# Altium footprint library TPS2660.PcbLib: 3 footprints
Each footprint in its own frame and in the unit in brackets; x right, y up, seen from the top. Pads: shape width x height; smd on the part's side, far side on the other; paste and mask are expansions set on the pad; w line width, h text height; cw(c..) or ccw(c..) is an arc to the next point about the centre after c.
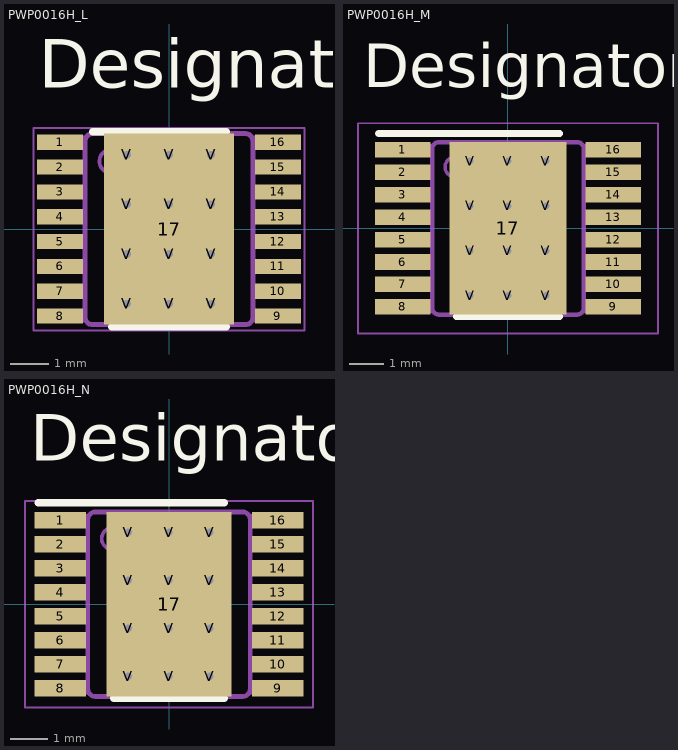
[diagram p0: the footprints below, top view; thin cyan lines are the x and y axes]

## PWP0016H_L [mm]
pads (29):
  rect 1.2x0.4 smd paste+0 mask+0.051: 1(-2.85,2.275) 2(-2.85,1.625) 3(-2.85,0.975) 4(-2.85,0.325) 5(-2.85,-0.325) 6(-2.85,-0.975) 7(-2.85,-1.625) 8(-2.85,-2.275) 9(2.85,-2.275) 10(2.85,-1.625) 11(2.85,-0.975) 12(2.85,-0.325) 13(2.85,0.325) 14(2.85,0.975) 15(2.85,1.625) 16(2.85,2.275)
  rect 3.4x5 smd paste-2.487 mask-2.489: 17(0,0)
  round 0.5 / inner round 1.524 / far side round 0.5 hole 0.203 mask-0.241: V(-1.1,-1.95) V(-1.1,1.95) V(0,-1.95) V(0,-0.65) V(0,0.65) V(0,1.95) V(1.1,-1.95) V(1.1,1.95)
  round 0.5 / inner round 1.524 / far side round 0.5 hole 0.203 mask-0.152: V(-1.1,-0.65) V(-1.1,0.65) V(1.1,-0.65) V(1.1,0.65)
Top Overlay:
  lines w0.2: -2,2.55 1.5,2.55 ; -1.5,-2.55 1.5,-2.55
  text "Designator9" at -3.404,3.708 h1.27
Top Paste:
  region: -1.229,-1.118 -1.23,-1.109 -1.23,1.109 -1.229,1.118 -1.226,1.126 -1.222,1.134 -1.216,1.141 -1.209,1.147 -1.201,1.151 -1.193,1.154 -1.184,1.155 1.184,1.155 1.193,1.154 1.201,1.151 1.209,1.147 1.216,1.141 1.222,1.134 1.226,1.126 1.229,1.118 1.23,1.109 1.23,-1.109 1.229,-1.118 1.226,-1.126 1.222,-1.134 1.216,-1.141 1.209,-1.147 1.201,-1.151 1.193,-1.154 1.184,-1.155 -1.184,-1.155 -1.193,-1.154 -1.201,-1.151 -1.209,-1.147 -1.216,-1.141 -1.222,-1.134 -1.226,-1.126
Top Solder:
  region: -1.229,-1.118 -1.23,-1.109 -1.23,1.109 -1.229,1.118 -1.226,1.126 -1.222,1.134 -1.216,1.141 -1.209,1.147 -1.201,1.151 -1.193,1.154 -1.184,1.155 1.184,1.155 1.193,1.154 1.201,1.151 1.209,1.147 1.216,1.141 1.222,1.134 1.226,1.126 1.229,1.118 1.23,1.109 1.23,-1.109 1.229,-1.118 1.226,-1.126 1.222,-1.134 1.216,-1.141 1.209,-1.147 1.201,-1.151 1.193,-1.154 1.184,-1.155 -1.184,-1.155 -1.193,-1.154 -1.201,-1.151 -1.209,-1.147 -1.216,-1.141 -1.222,-1.134 -1.226,-1.126
Mechanical 13:
  drawing of 201 lines, arcs and shapes, not listed
  text ".Designator" at -0.254,1.905 h1.27
Mechanical 15:
  lines w0.05: -3.55,-2.65 3.55,-2.65 3.55,2.65 -3.55,2.65 -3.55,-2.65
  lines w0.1: -0.5,0 0.5,0 ; 0,-0.5 0,0.5
3D body: height 0.25, standoff 0, extent 0,0 0.254,0.254

## PWP0016H_M [mm]
pads (29):
  rect 1.6x0.45 smd paste+0 mask+0.051: 1(-3.05,2.275) 2(-3.05,1.625) 3(-3.05,0.975) 4(-3.05,0.325) 5(-3.05,-0.325) 6(-3.05,-0.975) 7(-3.05,-1.625) 8(-3.05,-2.275) 9(3.05,-2.275) 10(3.05,-1.625) 11(3.05,-0.975) 12(3.05,-0.325) 13(3.05,0.325) 14(3.05,0.975) 15(3.05,1.625) 16(3.05,2.275)
  rect 3.4x5 smd paste-2.487 mask-2.489: 17(0,0)
  round 0.5 / inner round 1.524 / far side round 0.5 hole 0.203 mask-0.241: V(-1.1,-1.95) V(-1.1,1.95) V(0,-1.95) V(0,-0.65) V(0,0.65) V(0,1.95) V(1.1,-1.95) V(1.1,1.95)
  round 0.5 / inner round 1.524 / far side round 0.5 hole 0.203 mask-0.152: V(-1.1,-0.65) V(-1.1,0.65) V(1.1,-0.65) V(1.1,0.65)
Top Overlay:
  lines w0.2: -3.75,2.75 1.5,2.75 ; -1.5,-2.55 1.5,-2.55
  text "Designator9" at -4.191,4.089 h1.27
Top Paste:
  region: -1.229,-1.118 -1.23,-1.109 -1.23,1.109 -1.229,1.118 -1.226,1.126 -1.222,1.134 -1.216,1.141 -1.209,1.147 -1.201,1.151 -1.193,1.154 -1.184,1.155 1.184,1.155 1.193,1.154 1.201,1.151 1.209,1.147 1.216,1.141 1.222,1.134 1.226,1.126 1.229,1.118 1.23,1.109 1.23,-1.109 1.229,-1.118 1.226,-1.126 1.222,-1.134 1.216,-1.141 1.209,-1.147 1.201,-1.151 1.193,-1.154 1.184,-1.155 -1.184,-1.155 -1.193,-1.154 -1.201,-1.151 -1.209,-1.147 -1.216,-1.141 -1.222,-1.134 -1.226,-1.126
Top Solder:
  region: -1.229,-1.118 -1.23,-1.109 -1.23,1.109 -1.229,1.118 -1.226,1.126 -1.222,1.134 -1.216,1.141 -1.209,1.147 -1.201,1.151 -1.193,1.154 -1.184,1.155 1.184,1.155 1.193,1.154 1.201,1.151 1.209,1.147 1.216,1.141 1.222,1.134 1.226,1.126 1.229,1.118 1.23,1.109 1.23,-1.109 1.229,-1.118 1.226,-1.126 1.222,-1.134 1.216,-1.141 1.209,-1.147 1.201,-1.151 1.193,-1.154 1.184,-1.155 -1.184,-1.155 -1.193,-1.154 -1.201,-1.151 -1.209,-1.147 -1.216,-1.141 -1.222,-1.134 -1.226,-1.126
Mechanical 13:
  drawing of 201 lines, arcs and shapes, not listed
  text ".Designator" at -0.254,1.905 h1.27
Mechanical 15:
  lines w0.05: -4.35,-3.05 4.35,-3.05 4.35,3.05 -4.35,3.05 -4.35,-3.05
  lines w0.1: -0.5,0 0.5,0 ; 0,-0.5 0,0.5
3D body: height 0.25, standoff 0, extent 0,0 0.254,0.254

## PWP0016H_N [mm]
pads (29):
  rect 1.4x0.45 smd paste+0 mask+0.051: 1(-2.95,2.275) 2(-2.95,1.625) 3(-2.95,0.975) 4(-2.95,0.325) 5(-2.95,-0.325) 6(-2.95,-0.975) 7(-2.95,-1.625) 8(-2.95,-2.275) 9(2.95,-2.275) 10(2.95,-1.625) 11(2.95,-0.975) 12(2.95,-0.325) 13(2.95,0.325) 14(2.95,0.975) 15(2.95,1.625) 16(2.95,2.275)
  rect 3.4x5 smd paste-2.487 mask-2.489: 17(0,0)
  round 0.5 / inner round 1.524 / far side round 0.5 hole 0.203 mask-0.241: V(-1.1,-1.95) V(-1.1,1.95) V(0,-1.95) V(0,-0.65) V(0,0.65) V(0,1.95) V(1.1,-1.95) V(1.1,1.95)
  round 0.5 / inner round 1.524 / far side round 0.5 hole 0.203 mask-0.152: V(-1.1,-0.65) V(-1.1,0.65) V(1.1,-0.65) V(1.1,0.65)
Top Overlay:
  lines w0.2: -3.55,2.75 1.5,2.75 ; -1.5,-2.55 1.5,-2.55
  text "Designator9" at -3.759,3.886 h1.27
Top Paste:
  region: -1.229,-1.118 -1.23,-1.109 -1.23,1.109 -1.229,1.118 -1.226,1.126 -1.222,1.134 -1.216,1.141 -1.209,1.147 -1.201,1.151 -1.193,1.154 -1.184,1.155 1.184,1.155 1.193,1.154 1.201,1.151 1.209,1.147 1.216,1.141 1.222,1.134 1.226,1.126 1.229,1.118 1.23,1.109 1.23,-1.109 1.229,-1.118 1.226,-1.126 1.222,-1.134 1.216,-1.141 1.209,-1.147 1.201,-1.151 1.193,-1.154 1.184,-1.155 -1.184,-1.155 -1.193,-1.154 -1.201,-1.151 -1.209,-1.147 -1.216,-1.141 -1.222,-1.134 -1.226,-1.126
Top Solder:
  region: -1.229,-1.118 -1.23,-1.109 -1.23,1.109 -1.229,1.118 -1.226,1.126 -1.222,1.134 -1.216,1.141 -1.209,1.147 -1.201,1.151 -1.193,1.154 -1.184,1.155 1.184,1.155 1.193,1.154 1.201,1.151 1.209,1.147 1.216,1.141 1.222,1.134 1.226,1.126 1.229,1.118 1.23,1.109 1.23,-1.109 1.229,-1.118 1.226,-1.126 1.222,-1.134 1.216,-1.141 1.209,-1.147 1.201,-1.151 1.193,-1.154 1.184,-1.155 -1.184,-1.155 -1.193,-1.154 -1.201,-1.151 -1.209,-1.147 -1.216,-1.141 -1.222,-1.134 -1.226,-1.126
Mechanical 13:
  drawing of 201 lines, arcs and shapes, not listed
  text ".Designator" at -0.254,1.905 h1.27
Mechanical 15:
  lines w0.05: -3.9,-2.8 -3.9,2.8 3.9,2.8 3.9,-2.8 -3.9,-2.8
  lines w0.1: -0.5,0 0.5,0 ; 0,-0.5 0,0.5
3D body: height 0.25, standoff 0, extent 0,0 0.254,0.254